# Altium schematic symbol library SparkFun-Connectors.SCHLIB: 365 symbols (part 8 of 8)
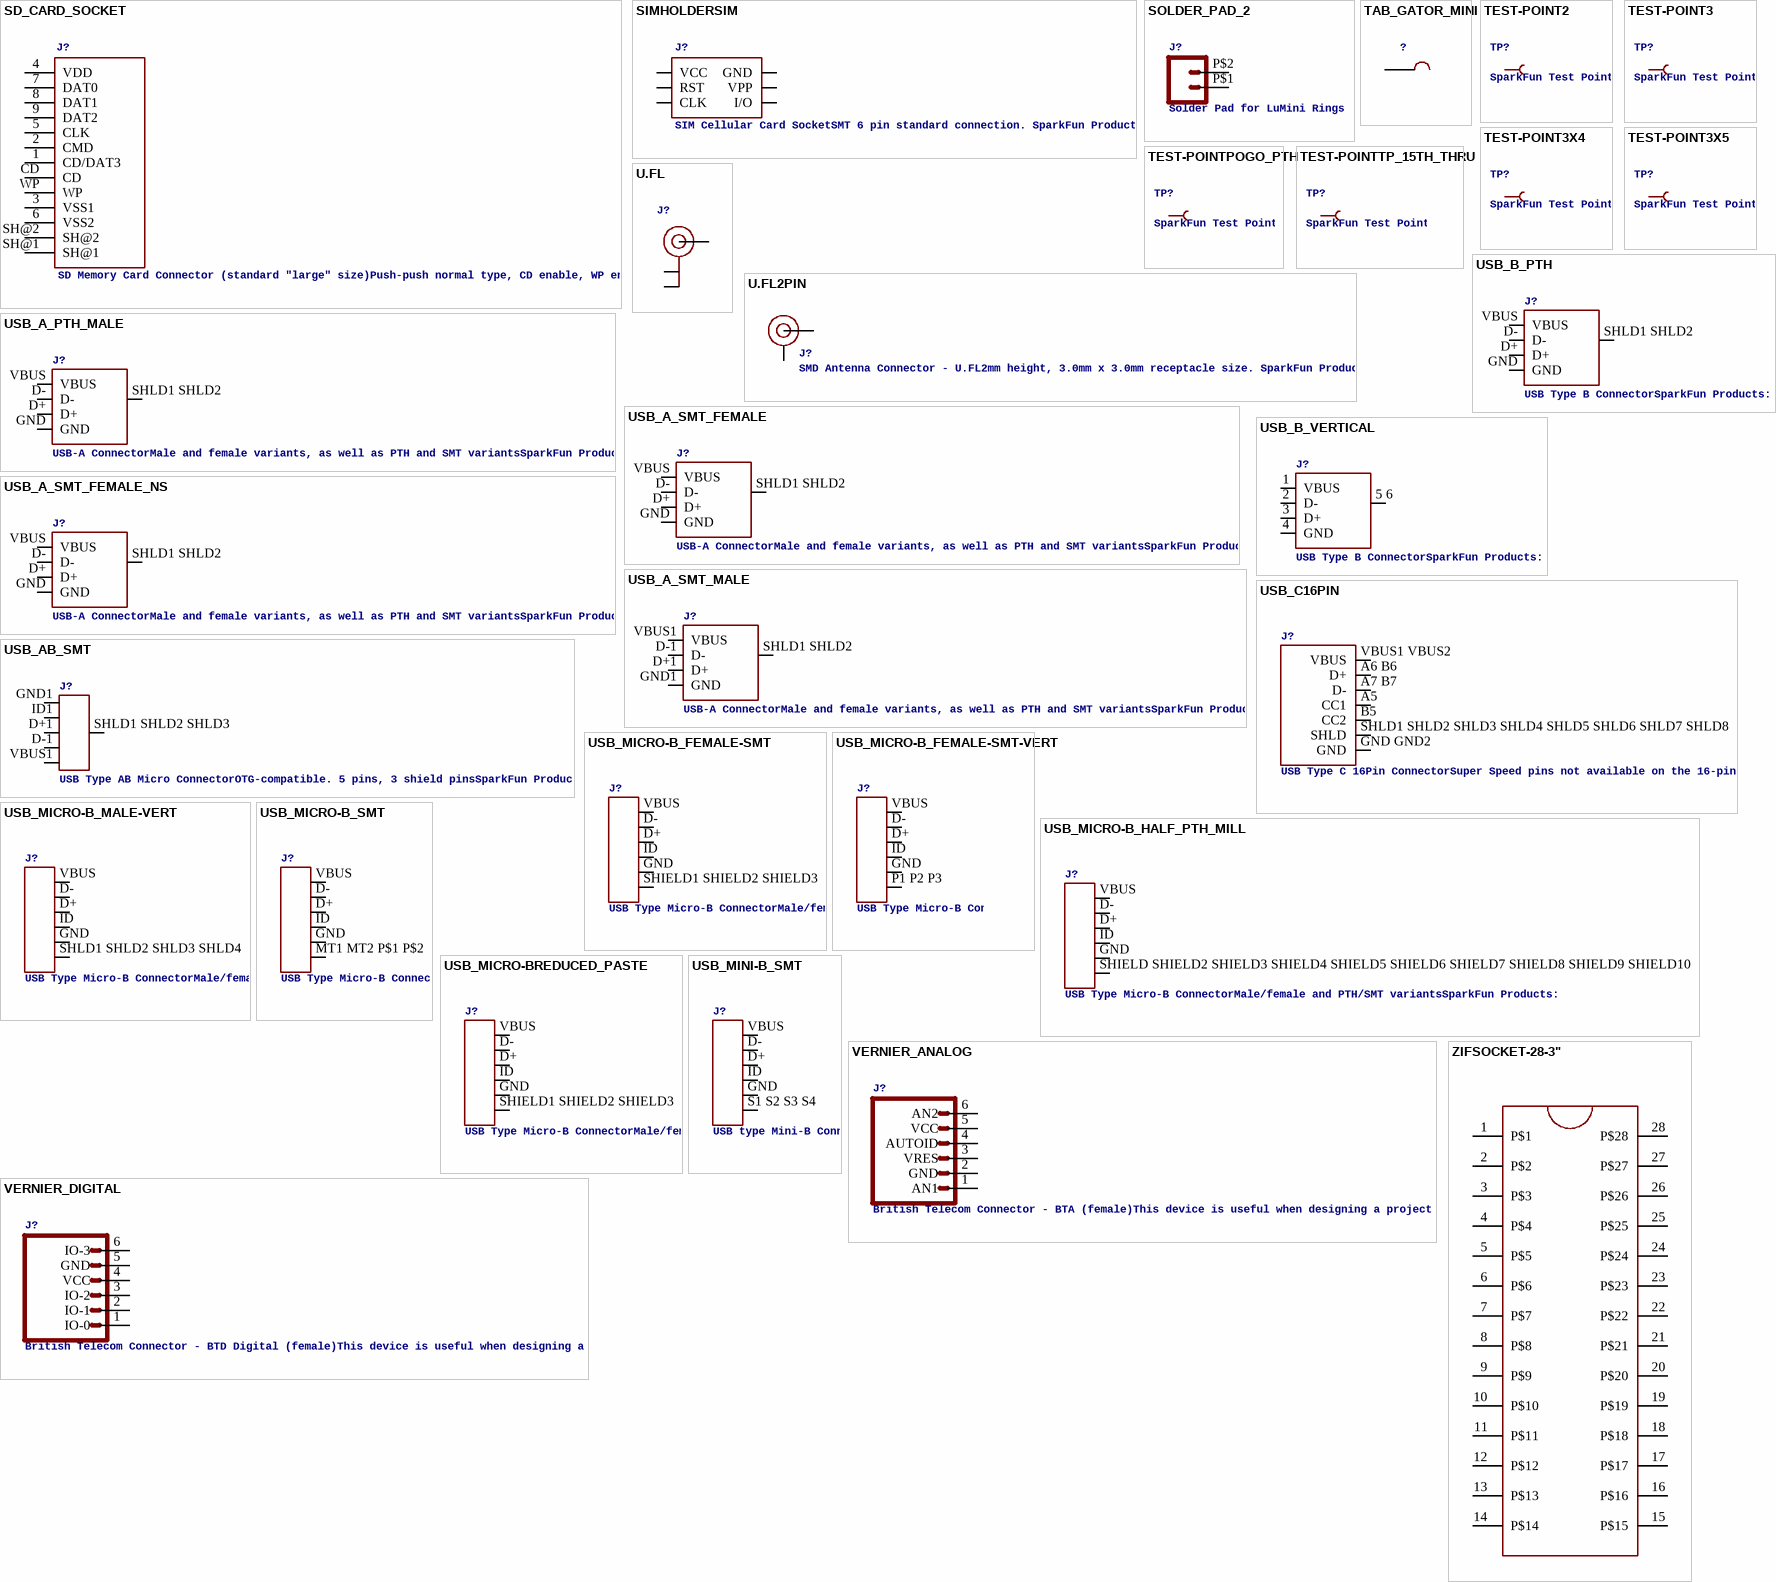
[diagram p23: symbols SD_CARD_SOCKET to ZIFSOCKET-28-3"]

## USB_A_SMT_FEMALE
designator J?, comment USB-A ConnectorMale and female variants, as well as PTH and SMT variantsSparkFun Products:
GateName_1: G$1; SymbolName_1: USB; DeviceName: _SMT_FEMALE; DeviceSetName: USB_A; PROD_ID: CONN-09520; SF_ID: PRT-09011; LibraryName: SparkFun-Connectors; Package: USB-A-S-SILK-FEMALE
footprint USB-A-S-SILK-FEMALE
pins: D+, D-, GND (power), SHLD1 SHLD2 SHIELD, VBUS (power)

## USB_A_SMT_FEMALE_NS
designator J?, comment USB-A ConnectorMale and female variants, as well as PTH and SMT variantsSparkFun Products:
GateName_1: G$1; SymbolName_1: USB; DeviceName: _SMT_FEMALE_NS; DeviceSetName: USB_A; PROD_ID: CONN-09520; SF_ID: PRT-09011; LibraryName: SparkFun-Connectors; Package: USB-A-S-NOSILK-FEMALE
footprint USB-A-S-NOSILK-FEMALE
pins: D+, D-, GND (power), SHLD1 SHLD2 SHIELD, VBUS (power)

## USB_A_SMT_MALE
designator J?, comment USB-A ConnectorMale and female variants, as well as PTH and SMT variantsSparkFun Products:
GateName_1: G$1; SymbolName_1: USB; DeviceName: _SMT_MALE; DeviceSetName: USB_A; PROD_ID: CONN-11499; LibraryName: SparkFun-Connectors; Package: USB-A-SMT-MALE
footprint USB-A-SMT-MALE
pins: D+1 D+, D-1 D-, GND1 GND (power), SHLD1 SHLD2 SHIELD, VBUS1 VBUS (power)

## USB_AB_SMT
designator J?, comment USB Type AB Micro ConnectorOTG-compatible. 5 pins, 3 shield pinsSparkFun Products:
GateName_1: G$1; SymbolName_1: USB_AB; DeviceName: _SMT; PROD_ID: CONN-11794; LibraryName: SparkFun-Connectors; DeviceSetName: USB_AB; Package: USB-AB-MICRO-SMD
footprint USB-AB-MICRO-SMD
pins: D+1 D+, D-1 D-, GND1 GND (power), ID1 USBID, SHLD1 SHLD2 SHLD3 SHIELD, VBUS1 VBUS (power)

## USB_B_PTH
designator J?, comment USB Type B ConnectorSparkFun Products:
GateName_1: G$1; DeviceName: _PTH; DeviceSetName: USB_B; PROD_ID: CONN-08278; SF_ID: PRT-00139; SymbolName_1: USB; LibraryName: SparkFun-Connectors; Package: USB-B-PTH
footprint USB-B-PTH
pins: D+, D-, GND (power), SHLD1 SHLD2 SHIELD, VBUS (power)

## USB_B_VERTICAL
designator J?, comment USB Type B ConnectorSparkFun Products:
GateName_1: G$1; DeviceName: _VERTICAL; DeviceSetName: USB_B; SymbolName_1: USB; LibraryName: SparkFun-Connectors; Package: USB_B_VERTICAL_PTH
footprint USB_B_VERTICAL_PTH
pins: 1 VBUS (power), 2 D-, 3 D+, 4 GND (power), 5 6 SHIELD

## USB_C16PIN
designator J?, comment USB Type C 16Pin ConnectorSuper Speed pins not available on the 16-pin purely SMD connector so this part is best for USB 2.0 implementations. D1 and D2 are tied together enabling D+/- no matter which way the cable is plugged into the connector. The two channel configuration pins (CC1/2) are exposed. These are normally connected to ground via 5.1k resistors but can be reconfigured for high current/high power applications.
GateName_1: J1; SymbolName_1: USB-C-MINIMUM; DeviceSetName: USB_C; PROD_ID: CONN-14122; DeviceName: 16PIN; LibraryName: SparkFun-Connectors; Package: USB-C-16P
footprint USB-C-16P
pins: A5 CC1, A6 B6 D+, A7 B7 D-, B5 CC2, GND GND2 GND, SHLD1 SHLD2 SHLD3 SHLD4 SHLD5 SHLD6 SHLD7 SHLD8 SHLD, VBUS1 VBUS2 VBUS

## USB_MICRO-B_FEMALE-SMT
designator J?, comment USB Type Micro-B ConnectorMale/female and PTH/SMT variantsSparkFun Products:
GateName_1: J1; SymbolName_1: USB-5PIN; DeviceName: _FEMALE-SMT; DeviceSetName: USB_MICRO-B; PROD_ID: CONN-11752; LibraryName: SparkFun-Connectors; Package: USB-B-MICRO-SMD
footprint USB-B-MICRO-SMD
pins: D+, D-, GND (power), ID, SHIELD1 SHIELD2 SHIELD3 SHIELD, VBUS (power)

## USB_MICRO-B_FEMALE-SMT-VERT
designator J?, comment USB Type Micro-B ConnectorMale/female and PTH/SMT variantsSparkFun Products:
GateName_1: J1; SymbolName_1: USB-5PIN; DeviceName: _FEMALE-SMT-VERT; DeviceSetName: USB_MICRO-B; PROD_ID: CONN-13534; LibraryName: SparkFun-Connectors; Package: USB-B-MICRO-SMD_VERT
footprint USB-B-MICRO-SMD_VERT
pins: D+, D-, GND (power), ID, P1 P2 P3 SHIELD, VBUS (power)

## USB_MICRO-B_HALF_PTH_MILL
designator J?, comment USB Type Micro-B ConnectorMale/female and PTH/SMT variantsSparkFun Products:
GateName_1: J1; SymbolName_1: USB-5PIN; DeviceName: _HALF_PTH_MILL; DeviceSetName: USB_MICRO-B; PROD_ID: CONN-13711; LibraryName: SparkFun-Connectors; Package: USB-MICROB-PTH-MILL
footprint USB-MICROB-PTH-MILL
pins: D+, D-, GND (power), ID, SHIELD SHIELD2 SHIELD3 SHIELD4 SHIELD5 SHIELD6 SHIELD7 SHIELD8 SHIELD9 SHIELD10 SHIELD, VBUS (power)

## USB_MICRO-B_MALE-VERT
designator J?, comment USB Type Micro-B ConnectorMale/female and PTH/SMT variantsSparkFun Products:
GateName_1: J1; SymbolName_1: USB-5PIN; DeviceName: _MALE-VERT; DeviceSetName: USB_MICRO-B; PROD_ID: CONN-09900; LibraryName: SparkFun-Connectors; Package: USB_MICROB_VERTICAL
footprint USB_MICROB_VERTICAL
pins: D+, D-, GND (power), ID, SHLD1 SHLD2 SHLD3 SHLD4 SHIELD, VBUS (power)

## USB_MICRO-B_SMT
designator J?, comment USB Type Micro-B ConnectorMale/female and PTH/SMT variantsSparkFun Products:
GateName_1: J1; SymbolName_1: USB-5PIN; DeviceName: _SMT; DeviceSetName: USB_MICRO-B; PROD_ID: CONN-09505; SF_ID: PRT-08533; LibraryName: SparkFun-Connectors; Package: USB-MICROB
footprint USB-MICROB
pins: D+, D-, GND (power), ID, MT1 MT2 P$1 P$2 SHIELD, VBUS (power)

## USB_MICRO-BREDUCED_PASTE
designator J?, comment USB Type Micro-B ConnectorMale/female and PTH/SMT variantsSparkFun Products:
GateName_1: J1; SymbolName_1: USB-5PIN; DeviceName: REDUCED_PASTE; DeviceSetName: USB_MICRO-B; PROD_ID: CONN-11752; LibraryName: SparkFun-Connectors; Package: USB-B-MICRO-SMD_RED_PASTE
footprint USB-B-MICRO-SMD_RED_PASTE
pins: D+, D-, GND (power), ID, SHIELD1 SHIELD2 SHIELD3 SHIELD, VBUS (power)

## USB_MINI-B_SMT
designator J?, comment USB type Mini-B ConnectorBreaks out 5th pin, and includes shield pins if needed.SparkFun Products:
GateName_1: G$1; SymbolName_1: USB-5PIN; DeviceName: _SMT; DeviceSetName: USB_MINI-B; PROD_ID: CONN-08193; SF_ID: PRT-00587; LibraryName: SparkFun-Connectors; Package: USB-MINIB
footprint USB-MINIB
pins: D+, D-, GND (power), ID, S1 S2 S3 S4 SHIELD, VBUS (power)

## VERNIER_ANALOG
designator J?, comment British Telecom Connector - BTA (female)This device is useful when designing a project that uses any of the analog sensors in the Vernier ecosystem (sensors and/or controllers)SparkFun Products:
GateName_1: G$1; SymbolName_1: VERNIER_ANALOG; PROD_ID: CONN-11653; SF_ID: PRT-12753; LibraryName: SparkFun-Connectors; DeviceSetName: VERNIER_ANALOG; Package: BTA
footprint BTA
pins: 1 AN1, 2 GND, 3 VRES, 4 AUTOID, 5 VCC, 6 AN2

## VERNIER_DIGITAL
designator J?, comment British Telecom Connector - BTD Digital (female)This device is useful when designing a project that uses any of the analog sensors in the Vernier ecosystem (sensors and/or controllers)SparkFun Products: More information about the Vernier ecosystem can be found here:
GateName_1: G$1; SymbolName_1: VERNIER_DIGITAL; PROD_ID: CONN-11654; SF_ID: PRT-12754; LibraryName: SparkFun-Connectors; DeviceSetName: VERNIER_DIGITAL; Package: BTD
footprint BTD
pins: 1 IO-0, 2 IO-1, 3 IO-2, 4 VCC, 5 GND, 6 IO-3

## ZIFSOCKET-28-3"
designator J?, comment ZIF Socket 28-Pin 0.3"Lever-action ZIF socket for 28-pin ICsSparkFun Products:  (value not drawn)
GateName_1: G$1; SymbolName_1: DIL-28-3; DeviceName: "; DeviceSetName: ZIFSOCKET-28-3; PROD_ID: CONN-10960; SF_ID: PRT-09175; LibraryName: SparkFun-Connectors; Package: DIL28-3-ZIF_SOCKET
footprint DIL28-3-ZIF_SOCKET
pins: 1 P$1, 2 P$2, 3 P$3, 4 P$4, 5 P$5, 6 P$6, 7 P$7, 8 P$8, 9 P$9, 10 P$10, 11 P$11, 12 P$12, 13 P$13, 14 P$14, 15 P$15, 16 P$16, 17 P$17, 18 P$18, 19 P$19, 20 P$20, 21 P$21, 22 P$22, 23 P$23, 24 P$24, 25 P$25, 26 P$26, 27 P$27, 28 P$28